# EAGLE library part FT231X (library Cytrill)
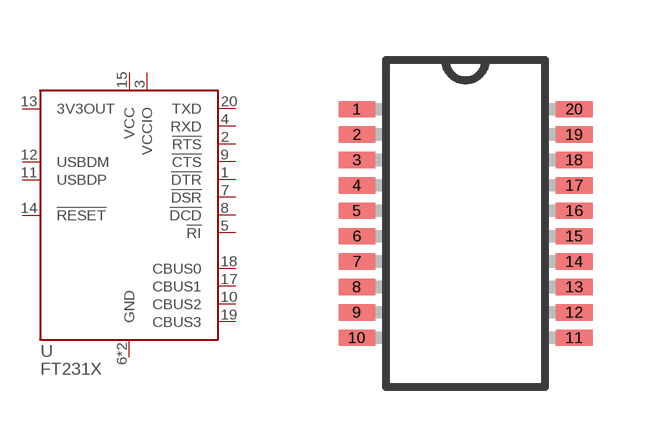
[diagram p2: symbol with the pads of SSOP20; footprint SSOP20]

Designator prefix -

## FT231X  [SSOP20]
1  !DTR  in
2  !RTS  out
3  VCCIO  pwr
4  RXD  in
5  !RI  in
6  GND  pwr
7  !DSR  in
8  !DCD  in
9  !CTS  in
10  CBUS2
11  USBDP  in
12  USBDM  in
13  3V3OUT  out
14  !RESET  in
15  VCC  pwr
16  GND  pwr
17  CBUS1
18  CBUS0
19  CBUS3
20  TXD  out

## Footprint SSOP20 (pad centres in mm)
smd 0.914 x 0.406: 1 -2.718,2.857; 2 -2.718,2.223; 3 -2.718,1.587; 4 -2.718,0.953; 5 -2.718,0.318; 6 -2.718,-0.318; 7 -2.718,-0.953; 8 -2.718,-1.587; 9 -2.718,-2.223; 10 -2.718,-2.857; 11 2.718,-2.857; 12 2.718,-2.223; 13 2.718,-1.587; 14 2.718,-0.953; 15 2.718,-0.318; 16 2.718,0.318; 17 2.718,0.953; 18 2.718,1.587; 19 2.718,2.223; 20 2.718,2.857